# EAGLE library part ADN4664 (library analog-devices)
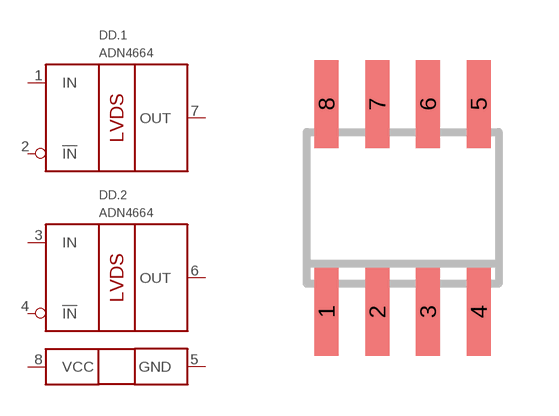
[diagram p2: symbol with the pads of SO08; footprint SO08]

Designator prefix DD; gates .1=ADN4664 .2=ADN4664 G$3=ADN466X_POWER

## ADN4664  [SO08]
1  .1:IN  in
2  .1:!IN  in
3  .2:IN  in
4  .2:!IN  in
5  G$3:GND  pwr
6  .2:OUT  out
7  .1:OUT  out
8  G$3:VCC  pwr

## Footprint SO08 (pad centres in mm)
SMALL OUTLINE INTEGRATED CIRCUIT body 3.9 mm/JEDEC MS-012AA
smd 0.6 x 2.2: 1 -1.905,-2.6; 2 -0.635,-2.6; 3 0.635,-2.6; 4 1.905,-2.6; 5 1.905,2.6; 6 0.635,2.6; 7 -0.635,2.6; 8 -1.905,2.6